# Altium schematic symbol library MEMORY_IC.SchLib: 1 symbol
Pins are listed as number, name and electrical type; pins without a type are passive.

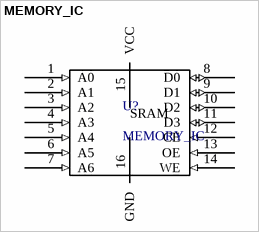
[diagram p0: symbol MEMORY_IC]

## MEMORY_IC
designator U?
Memory IC symbol
pins: 1 A0 (in), 2 A1 (in), 3 A2 (in), 4 A3 (in), 5 A4 (in), 6 A5 (in), 7 A6 (in), 8 D0 (io), 9 D1 (io), 10 D2 (io), 11 D3 (io), 12 CE (in), 13 OE (in), 14 WE (in), 15 VCC (power), 16 GND (power)
text: SRAM